# Altium footprint library parts.PcbLib: 4 footprints
Each footprint in its own frame and in the unit in brackets; x right, y up, seen from the top. Pads: shape width x height; smd on the part's side, far side on the other; paste and mask are expansions set on the pad; w line width, h text height; cw(c..) or ccw(c..) is an arc to the next point about the centre after c.
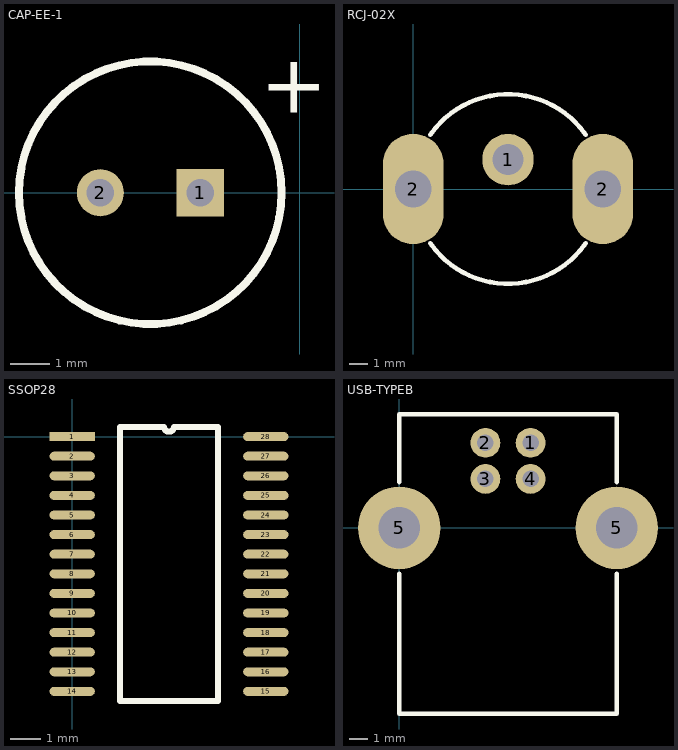
[diagram p0: the footprints below, top view; thin cyan lines are the x and y axes]

## CAP-EE-1 [mm]
pads (2):
  rect 1.2x1.2 hole 0.7: 1(-2.54,0)
  round 1.2 hole 0.7: 2(-5.08,0)
Top Overlay:
  circle w0.2: c-3.81,0 r3.341
  text "+" at -1.016,2.032 h1.5

## RCJ-02X [mm]
pads (3):
  round 2.794 hole 1.7: 1(5.15,1.6)
  oval 3.302x6 hole 2: 2(0,0) 2(10.3,0)
Top Overlay:
  lines w0.254: 0.931,-2.954 ccw(c5.15,0) 9.369,-2.954 ; 0.931,2.954 cw(c5.15,0) 9.369,2.954

## SSOP28 [mm]
pads (28):
  rect 1.5x0.3 smd: 1(0,0)
  oval 1.5x0.3 smd: 2(0,-0.65) 3(0,-1.3) 4(0,-1.95) 5(0,-2.6) 6(0,-3.25) 7(0,-3.9) 8(0,-4.55) 9(0,-5.2) 10(0,-5.85) 11(0,-6.5) 12(0,-7.15) 13(0,-7.8) 14(0,-8.45) 15(6.42,-8.45) 16(6.42,-7.8) 17(6.42,-7.15) 18(6.42,-6.5) 19(6.42,-5.85) 20(6.42,-5.2) 21(6.42,-4.55) 22(6.42,-3.9) 23(6.42,-3.25) 24(6.42,-2.6) 25(6.42,-1.95) 26(6.42,-1.3) 27(6.42,-0.65) 28(6.42,0)
Top Overlay:
  lines w0.2: 1.585,-8.775 4.835,-8.775 4.835,0.325 3.372,0.325 cw(c3.21,0.325) 3.047,0.325 1.585,0.325 1.585,-8.775

## USB-TYPEB [mm]
pads (6):
  round 1.651 hole 0.92: 1(7.27,4.71) 2(4.77,4.71) 3(4.77,2.71) 4(7.27,2.71)
  round 4.572 hole 2.3: 5(0,0) 5(12.04,0)
Top Overlay:
  lines w0.254: 0,-2.54 0,-10.3 12.04,-10.3 12.04,-2.54 ; 0,2.54 0,6.3 12.04,6.3 12.04,2.54